# EAGLE library part STM32F103 (library pcbv1)
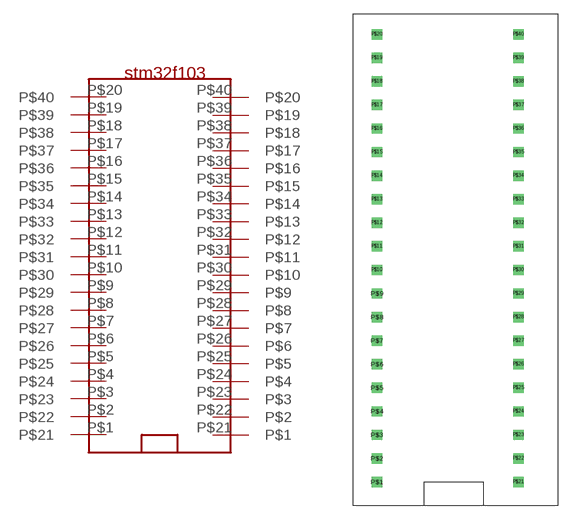
[diagram p0: symbol with the pads of STM32F103; footprint STM32F103]

Designator prefix -

## STM32F103  [STM32F103]
P$1  P$21
P$2  P$22
P$3  P$23
P$4  P$24
P$5  P$25
P$6  P$26
P$7  P$27
P$8  P$28
P$9  P$29
P$10  P$30
P$11  P$31
P$12  P$32
P$13  P$33
P$14  P$34
P$15  P$35
P$16  P$36
P$17  P$37
P$18  P$38
P$19  P$39
P$20  P$40
P$21  P$1
P$22  P$2
P$23  P$3
P$24  P$4
P$25  P$5
P$26  P$6
P$27  P$7
P$28  P$8
P$29  P$9
P$30  P$10
P$31  P$11
P$32  P$12
P$33  P$13
P$34  P$14
P$35  P$15
P$36  P$16
P$37  P$17
P$38  P$18
P$39  P$19
P$40  P$20

## Footprint STM32F103 (pad centres in mm)
drill 0.6 square: P$1 2.54,2.54; P$2 2.54,5.08; P$3 2.54,7.62; P$4 2.54,10.16; P$5 2.54,12.7; P$6 2.54,15.24; P$7 2.54,17.78; P$8 2.54,20.32; P$9 2.54,22.86; P$10 2.54,25.4; P$11 2.54,27.94; P$12 2.54,30.48; P$13 2.54,33.02; P$14 2.54,35.56; P$15 2.54,38.1; P$16 2.54,40.64; P$17 2.54,43.18; P$18 2.54,45.72; P$19 2.54,48.26; P$20 2.54,50.8; P$21 17.78,2.54; P$22 17.78,5.08; P$23 17.78,7.62; P$24 17.78,10.16; P$25 17.78,12.7; P$26 17.78,15.24; P$27 17.78,17.78; P$28 17.78,20.32; P$29 17.78,22.86; P$30 17.78,25.4; P$31 17.78,27.94; P$32 17.78,30.48; P$33 17.78,33.02; P$34 17.78,35.56; P$35 17.78,38.1; P$36 17.78,40.64; P$37 17.78,43.18; P$38 17.78,45.72; P$39 17.78,48.26; P$40 17.78,50.8